# Altium footprint library DS1014-14SF1B.PcbLib: 1 footprints
Each footprint in its own frame and in the unit in brackets; x right, y up, seen from the top. Pads: shape width x height; smd on the part's side, far side on the other; paste and mask are expansions set on the pad; w line width, h text height; cw(c..) or ccw(c..) is an arc to the next point about the centre after c.
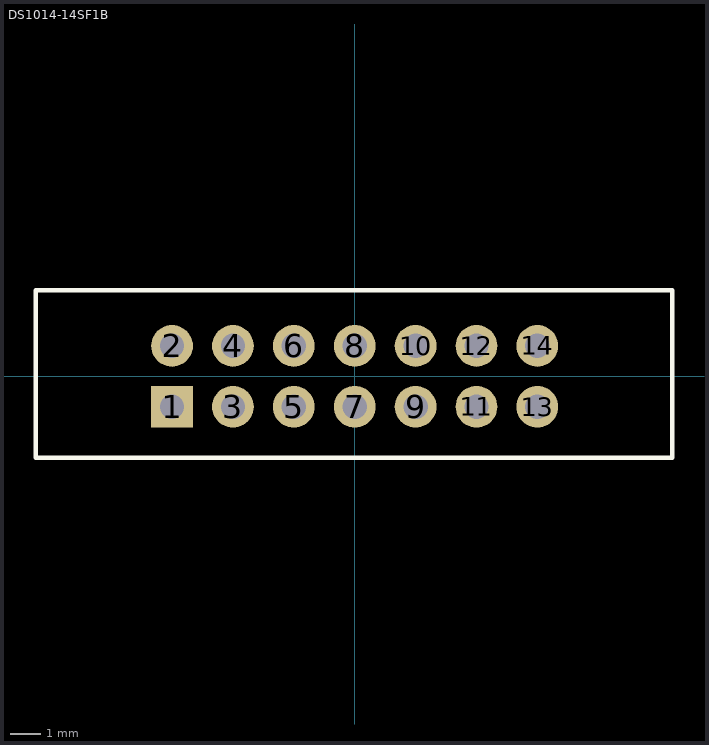
[diagram p0: the footprint, top view; thin cyan lines are the x and y axes]

## DS1014-14SF1B [mm] "IDC 14-pin straight 2mm pitch"
pads (14):
  rect 1.372x1.372 hole 0.8: 1(-6,-1)
  round 1.372 hole 0.8: 2(-6,1) 3(-4,-1) 4(-4,1) 5(-2,-1) 6(-2,1) 7(0,-1) 8(0,1) 9(2,-1) 10(2,1) 11(4,-1) 12(4,1) 13(6,-1) 14(6,1)
Top Overlay:
  lines w0.15: -10.475,-2.675 10.429,-2.675 10.429,2.829 -10.475,2.829 -10.475,-2.675
3D body "DS1014-14SF1B.step": height 5.6, standoff -2.5, extent -10.431,-2.684 10.369,2.716